# Altium footprint library Miscellaneous Devices.PcbLib: 215 footprints (part 14 of 14)
Each footprint in its own frame and in the unit in brackets; x right, y up, seen from the top. Pads: shape width x height; smd on the part's side, far side on the other; paste and mask are expansions set on the pad; w line width, h text height; cw(c..) or ccw(c..) is an arc to the next point about the centre after c.
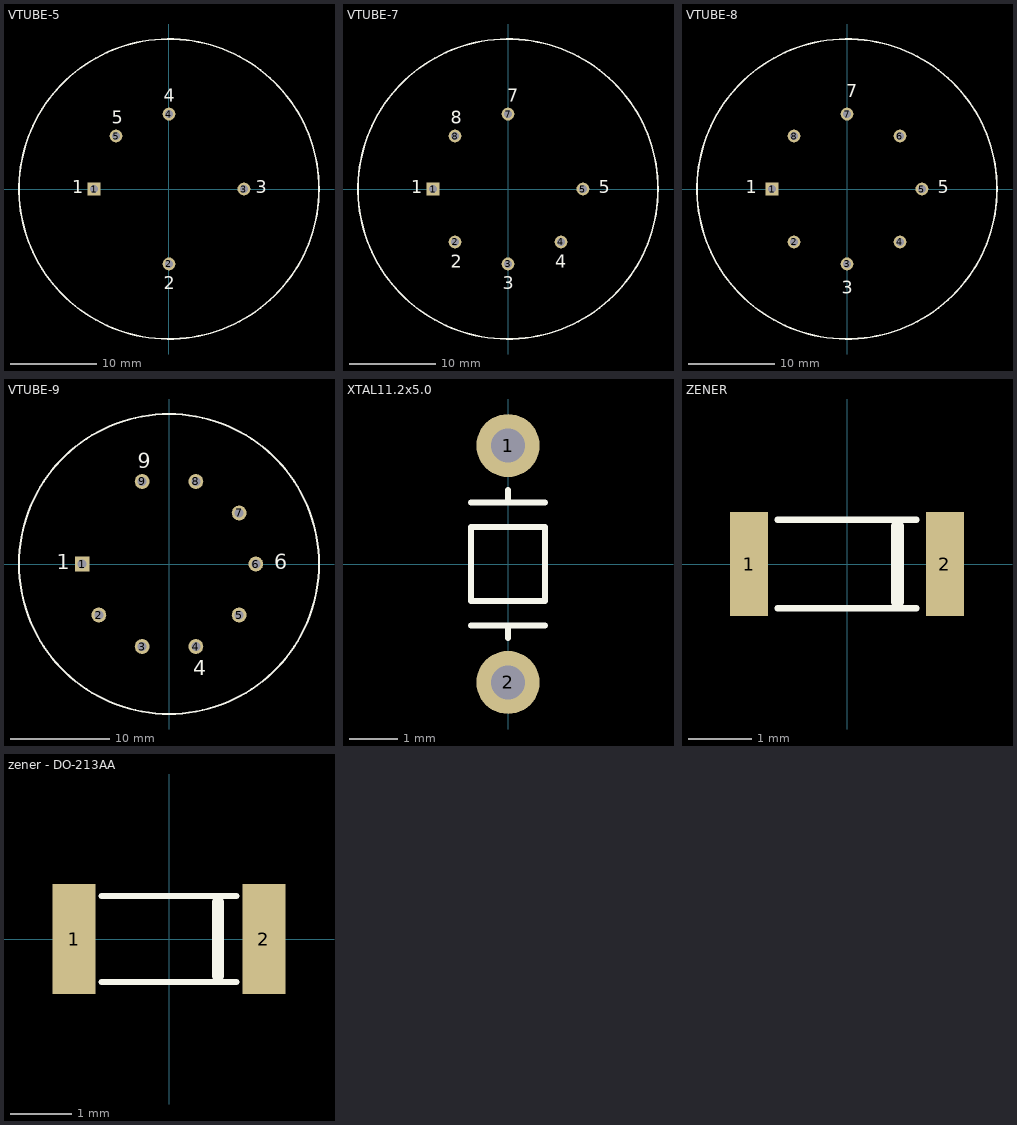
[diagram p13: the footprints below, top view; thin cyan lines are the x and y axes]

## VTUBE-5 [mm] "Vacuum Tube; 5 Leads"
pads (5):
  rect 1.5x1.5 hole 0.9: 1(-8.725,0)
  round 1.5 hole 0.9: 2(0,-8.725) 3(8.725,0) 4(0,8.725) 5(-6.17,6.17)
Top Overlay:
  circle w0.2: c0,0 r17.462
  text "1" at -11.265,-0.508 h1.5
  text "2" at -0.597,-11.684 h1.5
  text "4" at -0.597,10.16 h1.5
  text "5" at -6.693,7.62 h1.5
  text "3" at 10.071,-0.508 h1.5

## VTUBE-7 [mm] "Vacuum Tube; 7 Leads"
height 108
pads (7):
  rect 1.5x1.5 hole 0.9: 1(-8.725,0)
  round 1.5 hole 0.9: 2(-6.17,-6.17) 3(0,-8.725) 4(6.17,-6.17) 5(8.725,0) 7(0,8.725) 8(-6.17,6.17)
Top Overlay:
  circle w0.2: c0,0 r17.462
  text "8" at -6.693,7.62 h1.5
  text "7" at -0.089,10.16 h1.5
  text "5" at 10.579,-0.508 h1.5
  text "4" at 5.499,-9.144 h1.5
  text "3" at -0.597,-11.684 h1.5
  text "2" at -6.693,-9.144 h1.5
  text "1" at -11.265,-0.508 h1.5

## VTUBE-8 [mm] "Vacuum Tube; 8 Leads"
height 108
pads (8):
  rect 1.5x1.5 hole 0.9: 1(-8.725,0)
  round 1.5 hole 0.9: 2(-6.17,-6.17) 3(0,-8.725) 4(6.17,-6.17) 5(8.725,0) 6(6.17,6.17) 7(0,8.725) 8(-6.17,6.17)
Top Overlay:
  circle w0.2: c0,0 r17.462
  text "1" at -11.773,-0.508 h1.5
  text "3" at -0.597,-12.192 h1.5
  text "5" at 10.579,-0.508 h1.5
  text "7" at -0.089,10.668 h1.5

## VTUBE-9 [mm] "Vacuum Tube; 9 Leads"
height 66.7
pads (9):
  rect 1.5x1.5 hole 0.9: 1(-8.725,0)
  round 1.5 hole 0.9: 2(-7.059,-5.128) 3(-2.696,-8.298) 4(2.696,-8.298) 5(7.059,-5.128) 6(8.725,0) 7(7.059,5.128) 8(2.696,8.298) 9(-2.696,8.298)
Top Overlay:
  circle w0.2: c0,0 r15.081
  text "4" at 2.451,-11.176 h1.5
  text "6" at 10.579,-0.508 h1.5
  text "9" at -3.137,9.652 h1.5
  text "1" at -11.265,-0.508 h1.5

## XTAL11.2x5.0 [mm] "Crystal, Thru-Hole; 2 Leads; Body 5.0 x 11.2 mm"
height 8.2
pads (2):
  round 1.3 hole 0.7: 1(0,2.44) 2(0,-2.44)
Top Overlay:
  lines w0.127: -0.762,-1.27 0.762,-1.27 ; -0.762,1.27 0.762,1.27 ; 0,-1.524 0,-1.27 ; 0,1.27 0,1.524 ; -0.762,-0.762 0.762,-0.762 0.762,0.762 -0.762,0.762 -0.762,-0.762
3D body "XTAL11.2x5mm.STEP": height 3.5, standoff -4, extent -2.364,-5.675 2.286,5.675

## ZENER [mm] "DIM:1.6x3.50"
pads (2):
  rect 0.6x1.65 smd: 1(-1.55,0) 2(1.55,0)
Top Overlay:
  lines w0.1: -1.1,-0.7 1.1,-0.7 ; -1.1,0.7 1.1,0.7
  lines w0.2: 0.8,-0.6 0.8,0.6
3D body "zener1206.STEP": height 1.43, standoff -0.02, extent -1.75,-0.725 1.75,0.725

## zener - DO-213AA [mm] "DIM:1.7x3.70"
pads (2):
  rect 0.7x1.8 smd: 1(-1.55,0) 2(1.55,0)
Top Overlay:
  lines w0.1: -1.1,-0.7 1.1,-0.7 ; -1.1,0.7 1.1,0.7
  lines w0.2: 0.8,-0.6 0.8,0.6
3D body "zener1206.STEP": height 1.43, standoff -0.02, extent -1.75,-0.725 1.75,0.725